# EAGLE library part TPS563231 (library lib_ysk)
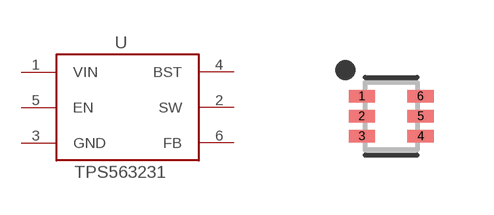
[diagram p9: symbol with the pads of TI_DRL0006A; footprint TI_DRL0006A]

Designator prefix U

## TPS563231DRL  [TI_DRL0006A]
1  VIN
2  SW
3  GND
4  BST
5  EN
6  FB

## Footprint TI_DRL0006A (pad centres in mm)
6-SOTFL, 0.50 mm pitch, 1.60 mm span, 1.60 X 1.20 X 0.60 mm body 6-pin SOTFL package with 0.50 mm pitch, 1.60 mm span with body size 1.60 X 1.20 X 0.60 mm
smd 0.66 x 0.314: 1 -0.735,0.5; 2 -0.735,0; 3 -0.735,-0.5; 4 0.735,-0.5; 5 0.735,0; 6 0.735,0.5